# EAGLE library part 74HC165D (library NXP_By_element14_Batch_1)
8-bit parallel-in/serial out shift register
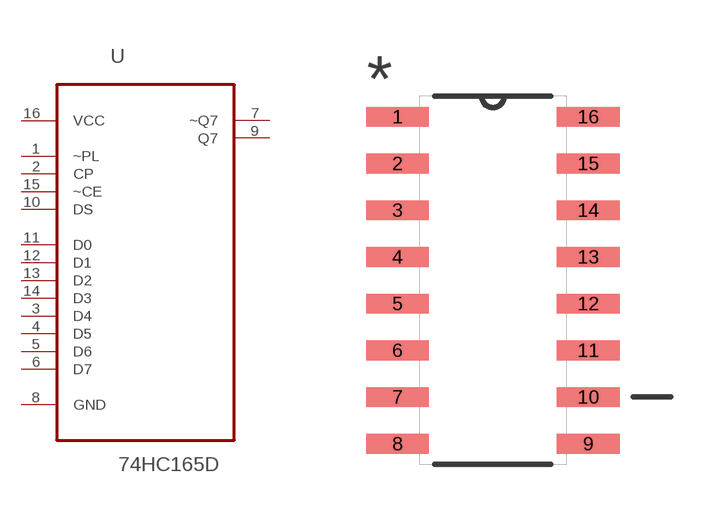
[diagram p49: symbol with the pads of SOIC127P600X175-16N; footprint SOIC127P600X175-16N]

Designator prefix U

## 74HC165D (MPN: 74HC165D; OC_FARNELL: 1201249; OC_NEWARK: 07WX3688; PACKAGE: SOIC-16; SUPPLIER: NXP)  [SOIC127P600X175-16N]
1  ~PL  in
2  CP  in
3  D4  in
4  D5  in
5  D6  in
6  D7  in
7  ~Q7  out
8  GND  pas
9  Q7  out
10  DS  in
11  D0  in
12  D1  in
13  D2  in
14  D3  in
15  ~CE  in
16  VCC  pwr

## Footprint SOIC127P600X175-16N (pad centres in mm)
smd 1.702 x 0.533: 1 -2.591,4.445; 2 -2.591,3.175; 3 -2.591,1.905; 4 -2.591,0.635; 5 -2.591,-0.635; 6 -2.591,-1.905; 7 -2.591,-3.175; 8 -2.591,-4.445; 9 2.591,-4.445; 10 2.591,-3.175; 11 2.591,-1.905; 12 2.591,-0.635; 13 2.591,0.635; 14 2.591,1.905; 15 2.591,3.175; 16 2.591,4.445